# Altium footprint library HEADER_M_1x19_2.54.PcbLib: 1 footprints
Each footprint in its own frame and in the unit in brackets; x right, y up, seen from the top. Pads: shape width x height; smd on the part's side, far side on the other; paste and mask are expansions set on the pad; w line width, h text height; cw(c..) or ccw(c..) is an arc to the next point about the centre after c.
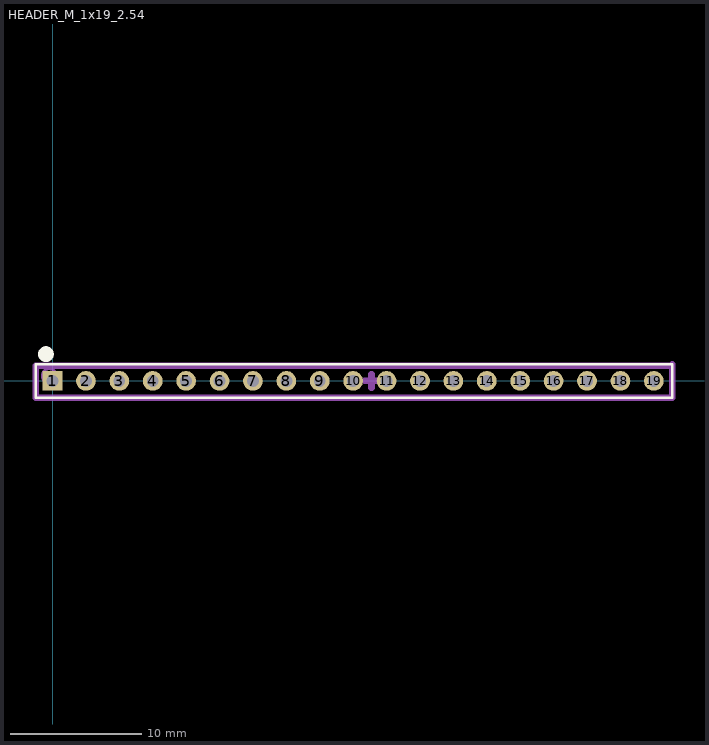
[diagram p0: the footprint, top view; thin cyan lines are the x and y axes]

## HEADER_M_1x19_2.54 [mm] "Connector; Header; 19 Position; Male"
pads (19):
  rect 1.5x1.5 hole 0.9: 1(0,0)
  round 1.5 hole 0.9: 2(2.54,0) 3(5.08,0) 4(7.62,0) 5(10.16,0) 6(12.7,0) 7(15.24,0) 8(17.78,0) 9(20.32,0) 10(22.86,0) 11(25.4,0) 12(27.94,0) 13(30.48,0) 14(33.02,0) 15(35.56,0) 16(38.1,0) 17(40.64,0) 18(43.18,0) 19(45.72,0)
Top Overlay:
  circle w0.635: c-0.508,2.032 r0.284
  lines w0.2: -1.27,-1.27 47.117,-1.27 47.117,1.27 0.635,1.27 -1.27,1.27 -1.27,-1.27
Top Assembly:
  circle w0.2: c-0.254,0.381 r0.539
  lines w0.1: -1.27,-1.27 -1.27,1.27 47.117,1.27 47.117,-1.27 -1.27,-1.27
Top Courtyard:
  lines w0.5: 23.749,0 24.765,0 ; 24.257,-0.508 24.257,0.508 ; -1.27,-1.27 47.117,-1.27 47.117,1.27 46.99,1.143 -1.27,1.143 -1.27,-1.27
3D body "9.stp": height 8.2, standoff -3, extent 24.23,-1.246 47.09,1.253
3D body "10.stp": height 8.2, standoff -3, extent -1.17,-1.246 24.23,1.253